# Altium footprint library 主控芯片..PcbLib: 3 footprints
Each footprint in its own frame and in the unit in brackets; x right, y up, seen from the top. Pads: shape width x height; smd on the part's side, far side on the other; paste and mask are expansions set on the pad; w line width, h text height; cw(c..) or ccw(c..) is an arc to the next point about the centre after c.
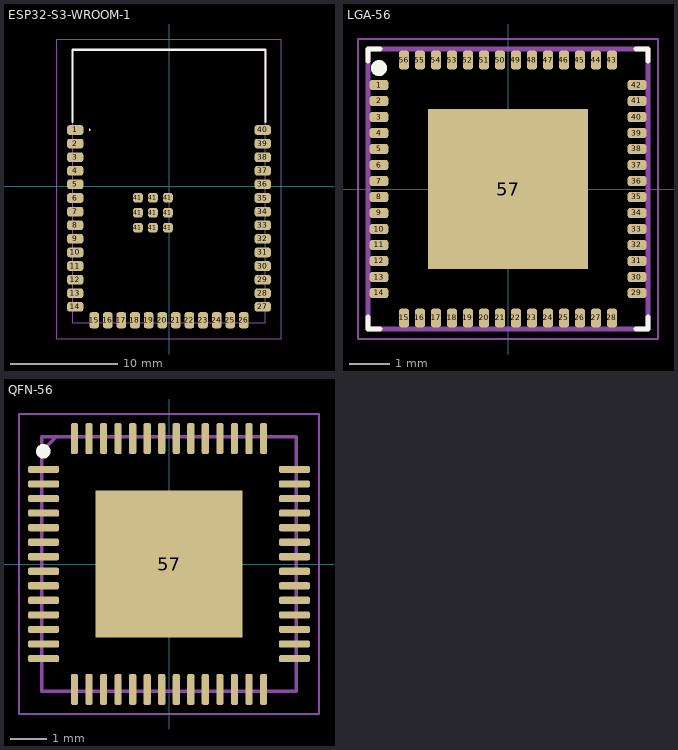
[diagram p0: the footprints below, top view; thin cyan lines are the x and y axes]

## ESP32-S3-WROOM-1 [mm]
pads (49):
  rrect50% 1.5x0.9 smd: 1(-8.75,5.26) 2(-8.75,3.99) 3(-8.75,2.72) 4(-8.75,1.45) 5(-8.75,0.18) 6(-8.75,-1.09) 7(-8.75,-2.36) 8(-8.75,-3.63) 9(-8.75,-4.9) 10(-8.75,-6.17) 11(-8.75,-7.44) 12(-8.75,-8.71) 13(-8.75,-9.98) 14(-8.75,-11.25) 27(8.75,-11.25) 28(8.75,-9.98) 29(8.75,-8.71) 30(8.75,-7.44) 31(8.75,-6.17) 32(8.75,-4.9) 33(8.75,-3.63) 34(8.75,-2.36) 35(8.75,-1.09) 36(8.75,0.18) 37(8.75,1.45) 38(8.75,2.72) 39(8.75,3.99) 40(8.75,5.26)
  rrect50% 0.9x1.5 smd: 15(-6.985,-12.5) 16(-5.715,-12.5) 17(-4.445,-12.5) 18(-3.175,-12.5) 19(-1.905,-12.5) 20(-0.635,-12.5) 21(0.635,-12.5) 22(1.905,-12.5) 23(3.175,-12.5) 24(4.445,-12.5) 25(5.715,-12.5) 26(6.985,-12.5)
  rrect50% 0.9x0.9 smd: 41(-2.9,-3.86) 41(-2.9,-2.46) 41(-2.9,-1.06) 41(-1.5,-3.86) 41(-1.5,-2.46) 41(-1.5,-1.06) 41(-0.1,-3.86) 41(-0.1,-2.46) 41(-0.1,-1.06)
Top Overlay:
  lines w0.1: -7.46,5.26 ccw(c-7.41,5.26) -7.36,5.26 ccw(c-7.41,5.26) -7.46,5.26
  lines w0.2: -9,6 -9,12.75 9,12.75 9,6
Mechanical 15:
  lines w0.1: -9,-12.75 9,-12.75 9,12.75 -9,12.75 -9,-12.75
Mechanical 20:
  lines w0.1: -10.5,-14.25 10.5,-14.25 10.5,13.75 -10.5,13.75 -10.5,-14.25
3D body "ESP32-S3-WROOM-1-N16R8.stp": height 3.25, standoff 0, extent -9,-12.75 9,12.75

## LGA-56 [mm]
height 1.06
pads (57):
  rrect50% 0.47x0.25 smd mask+0.05: 1(-3.225,2.6) 2(-3.225,2.2) 3(-3.225,1.8) 4(-3.225,1.4) 5(-3.225,1) 6(-3.225,0.6) 7(-3.225,0.2) 8(-3.225,-0.2) 9(-3.225,-0.6) 10(-3.225,-1) 11(-3.225,-1.4) 12(-3.225,-1.8) 13(-3.225,-2.2) 14(-3.225,-2.6) 29(3.225,-2.6) 30(3.225,-2.2) 31(3.225,-1.8) 32(3.225,-1.4) 33(3.225,-1) 34(3.225,-0.6) 35(3.225,-0.2) 36(3.225,0.2) 37(3.225,0.6) 38(3.225,1) 39(3.225,1.4) 40(3.225,1.8) 41(3.225,2.2) 42(3.225,2.6)
  rrect50% 0.25x0.47 smd mask+0.05: 15(-2.6,-3.225) 16(-2.2,-3.225) 17(-1.8,-3.225) 18(-1.4,-3.225) 19(-1,-3.225) 20(-0.6,-3.225) 21(-0.2,-3.225) 22(0.2,-3.225) 23(0.6,-3.225) 24(1,-3.225) 25(1.4,-3.225) 26(1.8,-3.225) 27(2.2,-3.225) 28(2.6,-3.225) 43(2.6,3.225) 44(2.2,3.225) 45(1.8,3.225) 46(1.4,3.225) 47(1,3.225) 48(0.6,3.225) 49(0.2,3.225) 50(-0.2,3.225) 51(-0.6,3.225) 52(-1,3.225) 53(-1.4,3.225) 54(-1.8,3.225) 55(-2.2,3.225) 56(-2.6,3.225)
  rect 4x4 smd paste-3: 57(0,0)
Top Overlay:
  circle w0.2: c-3.226,3.023 r0.1
  lines w0.127: -3.5,-3.2 -3.5,-3.5 -3.2,-3.5 ; -3.5,3.2 -3.5,3.5 -3.2,3.5 ; 3.2,-3.5 3.5,-3.5 3.5,-3.2 ; 3.2,3.5 3.5,3.5 3.5,3.2
Top Paste:
  region: -0.245,-1.515 -1.515,-1.515 -1.515,-0.245 -0.245,-0.245
  region: 1.515,-1.515 0.245,-1.515 0.245,-0.245 1.515,-0.245
  region: 1.515,0.245 0.245,0.245 0.245,1.515 1.515,1.515
  region: -0.245,0.245 -1.515,0.245 -1.515,1.515 -0.245,1.515
Mechanical 13:
  lines w0.127: -3.5,-3.5 3.5,-3.5 3.5,3.5 -3.5,3.5 -3.5,-3.5
Mechanical 15:
  lines w0.05: -3.75,-3.75 3.75,-3.75 3.75,3.75 -3.75,3.75 -3.75,-3.75
3D body "step_temp.STEP": height 1.06, standoff 0, extent -3.5,-3.5 3.5,3.5

## QFN-56 [mm]
pads (57):
  rrect50% 0.85x0.2 smd: 1(-3.45,2.6) 2(-3.45,2.2) 3(-3.45,1.8) 4(-3.45,1.4) 5(-3.45,1) 6(-3.45,0.6) 7(-3.45,0.2) 8(-3.45,-0.2) 9(-3.45,-0.6) 10(-3.45,-1) 11(-3.45,-1.4) 12(-3.45,-1.8) 13(-3.45,-2.2) 14(-3.45,-2.6) 29(3.45,-2.6) 30(3.45,-2.2) 31(3.45,-1.8) 32(3.45,-1.4) 33(3.45,-1) 34(3.45,-0.6) 35(3.45,-0.2) 36(3.45,0.2) 37(3.45,0.6) 38(3.45,1) 39(3.45,1.4) 40(3.45,1.8) 41(3.45,2.2) 42(3.45,2.6)
  rrect50% 0.2x0.85 smd: 15(-2.6,-3.45) 16(-2.2,-3.45) 17(-1.8,-3.45) 18(-1.4,-3.45) 19(-1,-3.45) 20(-0.6,-3.45) 21(-0.2,-3.45) 22(0.2,-3.45) 23(0.6,-3.45) 24(1,-3.45) 25(1.4,-3.45) 26(1.8,-3.45) 27(2.2,-3.45) 28(2.6,-3.45) 43(2.6,3.45) 44(2.2,3.45) 45(1.8,3.45) 46(1.4,3.45) 47(1,3.45) 48(0.6,3.45) 49(0.2,3.45) 50(-0.2,3.45) 51(-0.6,3.45) 52(-1,3.45) 53(-1.4,3.45) 54(-1.8,3.45) 55(-2.2,3.45) 56(-2.6,3.45)
  rect 4.05x4.05 smd: 57(0,0)
Top Overlay:
  circle w0.2: c-3.454,3.099 r0.1
Mechanical 15:
  lines w0.1: -3.5,3.1 -3.1,3.5 ; -3.5,-3.5 3.5,-3.5 3.5,3.5 -3.5,3.5 -3.5,-3.5
Mechanical 20:
  lines w0.05: -4.125,-4.125 4.125,-4.125 4.125,4.125 -4.125,4.125 -4.125,-4.125
3D body "ESP32-S3R8.stp": height 0.9, standoff 0, extent -3.55,-3.55 3.55,3.55